# Altium schematic symbol library R 0805 1% YAGEO.SchLib: 94 symbols
Pins are listed as number, name and electrical type; pins without a type are passive.

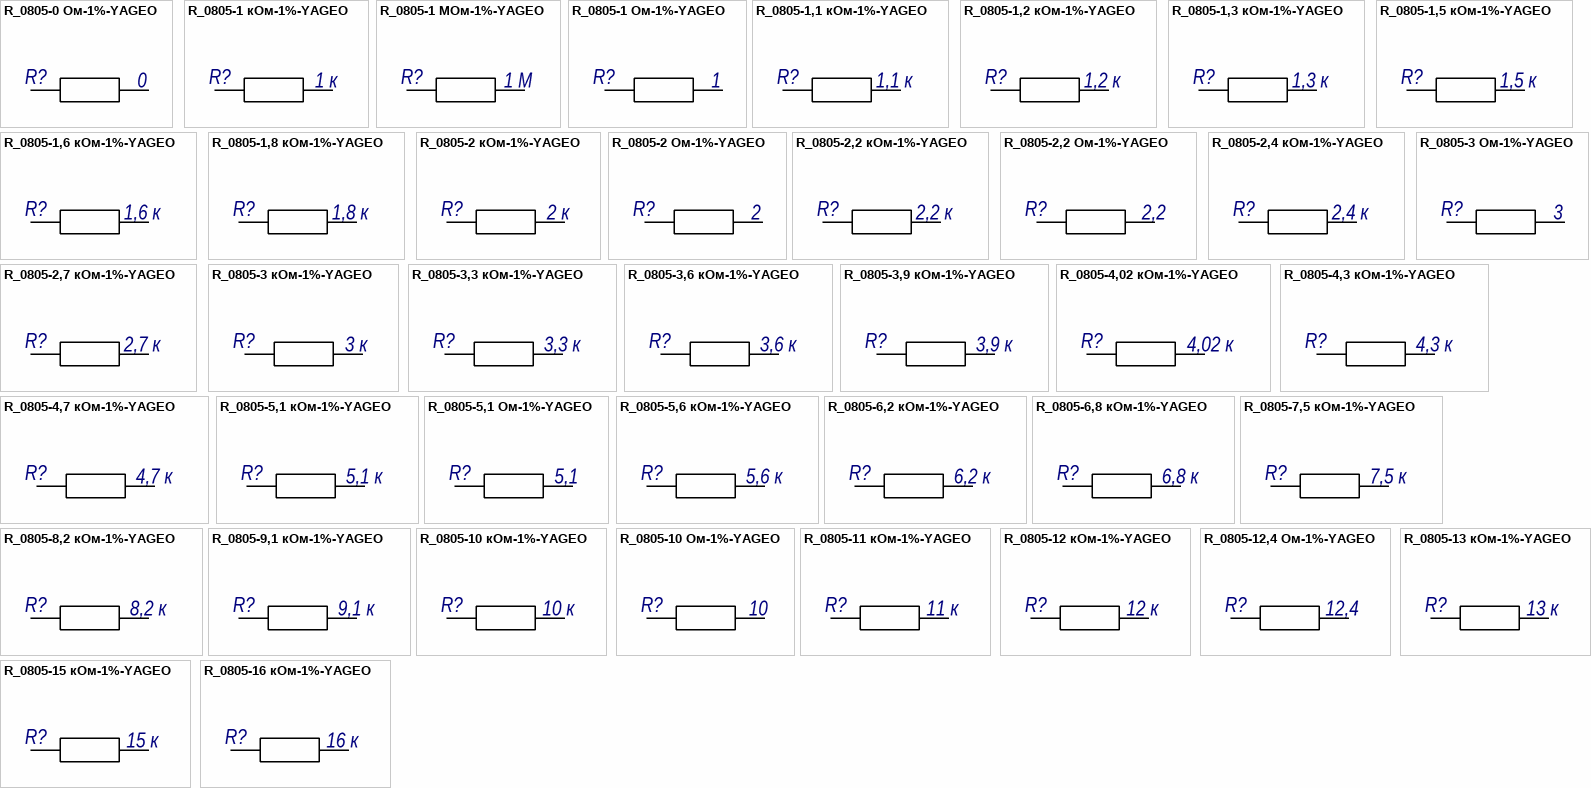
[diagram p0: symbols R_0805-0 Ом-1%-YAGEO to R_0805-16 кОм-1%-YAGEO]

## R_0805-0 Ом-1%-YAGEO
designator R?, comment value 0  (hidden comment: Резистор чип 0805-0,125 Вт-0 Ом ±1% фирма "YAGEO")
чип 0805-0,125 Вт-0 Ом ±1% фирма "YAGEO"; Tol: ± 1%; Manufacturer: фирма "YAGEO"; Power: 0,125 Вт; Name: Резистор; TYP: чип 0805; GOST: Резистор чип 0805-0,125 Вт-0 Ом ±1% фирма "YAGEO"
footprint R0805_H06M (Dim 2mm*1.25mm H=0.6mm)
pins: 1, 2
1 alternate drawing of the same symbol

## R_0805-1 кОм-1%-YAGEO
designator R?, comment value 1 к  (hidden comment: Резистор чип 0805-0,125 Вт-1 кОм ±1% фирма "YAGEO")
чип 0805-0,125 Вт-1 кОм ±1% фирма "YAGEO"; Tol: ± 1%; Manufacturer: фирма "YAGEO"; Power: 0,125 Вт; Name: Резистор; TYP: чип 0805; GOST: Резистор чип 0805-0,125 Вт-1 кОм ±1% фирма "YAGEO"
footprint R0805_H06M (Dim 2mm*1.25mm H=0.6mm)
pins: 1, 2
1 alternate drawing of the same symbol

## R_0805-1 МОм-1%-YAGEO
designator R?, comment value 1 М  (hidden comment: Резистор чип 0805-0,125 Вт-1 МОм ±1% фирма "YAGEO")
чип 0805-0,125 Вт-1 МОм ±1% фирма "YAGEO"; Tol: ± 1%; Manufacturer: фирма "YAGEO"; Power: 0,125 Вт; Name: Резистор; TYP: чип 0805; GOST: Резистор чип 0805-0,125 Вт-1 МОм ±1% фирма "YAGEO"
footprint R0805_H06M (Dim 2mm*1.25mm H=0.6mm)
pins: 1, 2
1 alternate drawing of the same symbol

## R_0805-1 Ом-1%-YAGEO
designator R?, comment value 1  (hidden comment: Резистор чип 0805-0,125 Вт-1 Ом ±1% фирма "YAGEO")
чип 0805-0,125 Вт-1 Ом ±1% фирма "YAGEO"; Tol: ± 1%; Manufacturer: фирма "YAGEO"; Power: 0,125 Вт; Name: Резистор; TYP: чип 0805; GOST: Резистор чип 0805-0,125 Вт-1 Ом ±1% фирма "YAGEO"
footprint R0805_H06M (Dim 2mm*1.25mm H=0.6mm)
pins: 1, 2
1 alternate drawing of the same symbol

## R_0805-1,1 кОм-1%-YAGEO
designator R?, comment value 1,1 к  (hidden comment: Резистор чип 0805-0,125 Вт-1,1 кОм ±1% фирма "YAGEO")
чип 0805-0,125 Вт-1,1 кОм ±1% фирма "YAGEO"; Tol: ± 1%; Manufacturer: фирма "YAGEO"; Power: 0,125 Вт; Name: Резистор; TYP: чип 0805; GOST: Резистор чип 0805-0,125 Вт-1,1 кОм ±1% фирма "YAGEO"
footprint R0805_H06M (Dim 2mm*1.25mm H=0.6mm)
pins: 1, 2
1 alternate drawing of the same symbol

## R_0805-1,2 кОм-1%-YAGEO
designator R?, comment value 1,2 к  (hidden comment: Резистор чип 0805-0,125 Вт-1,2 кОм ±1% фирма "YAGEO")
чип 0805-0,125 Вт-1,2 кОм ±1% фирма "YAGEO"; Tol: ± 1%; Manufacturer: фирма "YAGEO"; Power: 0,125 Вт; Name: Резистор; TYP: чип 0805; GOST: Резистор чип 0805-0,125 Вт-1,2 кОм ±1% фирма "YAGEO"
footprint R0805_H06M (Dim 2mm*1.25mm H=0.6mm)
pins: 1, 2
1 alternate drawing of the same symbol

## R_0805-1,3 кОм-1%-YAGEO
designator R?, comment value 1,3 к  (hidden comment: Резистор чип 0805-0,125 Вт-1,3 кОм ±1% фирма "YAGEO")
чип 0805-0,125 Вт-1,3 кОм ±1% фирма "YAGEO"; Tol: ± 1%; Manufacturer: фирма "YAGEO"; Power: 0,125 Вт; Name: Резистор; TYP: чип 0805; GOST: Резистор чип 0805-0,125 Вт-1,3 кОм ±1% фирма "YAGEO"
footprint R0805_H06M (Dim 2mm*1.25mm H=0.6mm)
pins: 1, 2
1 alternate drawing of the same symbol

## R_0805-1,5 кОм-1%-YAGEO
designator R?, comment value 1,5 к  (hidden comment: Резистор чип 0805-0,125 Вт-1,5 кОм ±1% фирма "YAGEO")
чип 0805-0,125 Вт-1,5 кОм ±1% фирма "YAGEO"; Tol: ± 1%; Manufacturer: фирма "YAGEO"; Power: 0,125 Вт; Name: Резистор; TYP: чип 0805; GOST: Резистор чип 0805-0,125 Вт-1,5 кОм ±1% фирма "YAGEO"
footprint R0805_H06M (Dim 2mm*1.25mm H=0.6mm)
pins: 1, 2
1 alternate drawing of the same symbol

## R_0805-1,6 кОм-1%-YAGEO
designator R?, comment value 1,6 к  (hidden comment: Резистор чип 0805-0,125 Вт-1,6 кОм ±1% фирма "YAGEO")
чип 0805-0,125 Вт-1,6 кОм ±1% фирма "YAGEO"; Tol: ± 1%; Manufacturer: фирма "YAGEO"; Power: 0,125 Вт; Name: Резистор; TYP: чип 0805; GOST: Резистор чип 0805-0,125 Вт-1,6 кОм ±1% фирма "YAGEO"
footprint R0805_H06M (Dim 2mm*1.25mm H=0.6mm)
pins: 1, 2
1 alternate drawing of the same symbol

## R_0805-1,8 кОм-1%-YAGEO
designator R?, comment value 1,8 к  (hidden comment: Резистор чип 0805-0,125 Вт-1,8 кОм ±1% фирма "YAGEO")
чип 0805-0,125 Вт-1,8 кОм ±1% фирма "YAGEO"; Tol: ± 1%; Manufacturer: фирма "YAGEO"; Power: 0,125 Вт; Name: Резистор; TYP: чип 0805; GOST: Резистор чип 0805-0,125 Вт-1,8 кОм ±1% фирма "YAGEO"
footprint R0805_H06M (Dim 2mm*1.25mm H=0.6mm)
pins: 1, 2
1 alternate drawing of the same symbol

## R_0805-2 кОм-1%-YAGEO
designator R?, comment value 2 к  (hidden comment: Резистор чип 0805-0,125 Вт-2 кОм ±1% фирма "YAGEO")
чип 0805-0,125 Вт-2 кОм ±1% фирма "YAGEO"; Tol: ± 1%; Manufacturer: фирма "YAGEO"; Power: 0,125 Вт; Name: Резистор; TYP: чип 0805; GOST: Резистор чип 0805-0,125 Вт-2 кОм ±1% фирма "YAGEO"
footprint R0805_H06M (Dim 2mm*1.25mm H=0.6mm)
pins: 1, 2
1 alternate drawing of the same symbol

## R_0805-2 Ом-1%-YAGEO
designator R?, comment value 2  (hidden comment: Резистор чип 0805-0,125 Вт-2 Ом ±1% фирма "YAGEO")
чип 0805-0,125 Вт-2 Ом ±1% фирма "YAGEO"; Tol: ± 1%; Manufacturer: фирма "YAGEO"; Power: 0,125 Вт; Name: Резистор; TYP: чип 0805; GOST: Резистор чип 0805-0,125 Вт-2 Ом ±1% фирма "YAGEO"
footprint R0805_H06M (Dim 2mm*1.25mm H=0.6mm)
pins: 1, 2
1 alternate drawing of the same symbol

## R_0805-2,2 кОм-1%-YAGEO
designator R?, comment value 2,2 к  (hidden comment: Резистор чип 0805-0,125 Вт-2,2 кОм ±1% фирма "YAGEO")
чип 0805-0,125 Вт-2,2 кОм ±1% фирма "YAGEO"; Tol: ± 1%; Manufacturer: фирма "YAGEO"; Power: 0,125 Вт; Name: Резистор; TYP: чип 0805; GOST: Резистор чип 0805-0,125 Вт-2,2 кОм ±1% фирма "YAGEO"
footprint R0805_H06M (Dim 2mm*1.25mm H=0.6mm)
pins: 1, 2
1 alternate drawing of the same symbol

## R_0805-2,2 Ом-1%-YAGEO
designator R?, comment value 2,2  (hidden comment: Резистор чип 0805-0,125 Вт-2,2 Ом ±1% фирма "YAGEO")
чип 0805-0,125 Вт-2,2 Ом ±1% фирма "YAGEO"; PartNumber: RC0603FR-072R2L; Tol: ± 1%; Manufacturer: фирма "YAGEO"; Power: 0,125 Вт; Name: Резистор; TYP: чип 0805; GOST: Резистор чип 0805-0,125 Вт-2,2 Ом ±1% фирма "YAGEO"
footprint R0805_H06M (Dim 2mm*1.25mm H=0.6mm)
pins: 1, 2
1 alternate drawing of the same symbol

## R_0805-2,4 кОм-1%-YAGEO
designator R?, comment value 2,4 к  (hidden comment: Резистор чип 0805-0,125 Вт-2,4 кОм ±1% фирма "YAGEO")
чип 0805-0,125 Вт-2,4 кОм ±1% фирма "YAGEO"; Tol: ± 1%; Manufacturer: фирма "YAGEO"; Power: 0,125 Вт; Name: Резистор; TYP: чип 0805; GOST: Резистор чип 0805-0,125 Вт-2,4 кОм ±1% фирма "YAGEO"
footprint R0805_H06M (Dim 2mm*1.25mm H=0.6mm)
pins: 1, 2
1 alternate drawing of the same symbol

## R_0805-2,7 кОм-1%-YAGEO
designator R?, comment value 2,7 к  (hidden comment: Резистор чип 0805-0,125 Вт-2,7 кОм ±1% фирма "YAGEO")
чип 0805-0,125 Вт-2,7 кОм ±1% фирма "YAGEO"; Tol: ± 1%; Manufacturer: фирма "YAGEO"; Power: 0,125 Вт; Name: Резистор; TYP: чип 0805; GOST: Резистор чип 0805-0,125 Вт-2,7 кОм ±1% фирма "YAGEO"
footprint R0805_H06M (Dim 2mm*1.25mm H=0.6mm)
pins: 1, 2
1 alternate drawing of the same symbol

## R_0805-3 кОм-1%-YAGEO
designator R?, comment value 3 к  (hidden comment: Резистор чип 0805-0,125 Вт-3 кОм ±1% фирма "YAGEO")
чип 0805-0,125 Вт-3 кОм ±1% фирма "YAGEO"; Tol: ± 1%; Manufacturer: фирма "YAGEO"; Power: 0,125 Вт; Name: Резистор; TYP: чип 0805; GOST: Резистор чип 0805-0,125 Вт-3 кОм ±1% фирма "YAGEO"
footprint R0805_H06M (Dim 2mm*1.25mm H=0.6mm)
pins: 1, 2
1 alternate drawing of the same symbol

## R_0805-3 Ом-1%-YAGEO
designator R?, comment value 3  (hidden comment: Резистор чип 0805-0,125 Вт-3 Ом ±1% фирма "YAGEO")
чип 0805-0,125 Вт-3 Ом ±1% фирма "YAGEO"; Tol: ± 1%; Manufacturer: фирма "YAGEO"; Power: 0,125 Вт; Name: Резистор; TYP: чип 0805; GOST: Резистор чип 0805-0,125 Вт-3 Ом ±1% фирма "YAGEO"
footprint R0805_H06M (Dim 2mm*1.25mm H=0.6mm)
pins: 1, 2
1 alternate drawing of the same symbol

## R_0805-3,3 кОм-1%-YAGEO
designator R?, comment value 3,3 к  (hidden comment: Резистор чип 0805-0,125 Вт-3,3 кОм ±1% фирма "YAGEO")
чип 0805-0,125 Вт-3,3 кОм ±1% фирма "YAGEO"; Tol: ± 1%; Manufacturer: фирма "YAGEO"; Power: 0,125 Вт; Name: Резистор; TYP: чип 0805; GOST: Резистор чип 0805-0,125 Вт-3,3 кОм ±1% фирма "YAGEO"
footprint R0805_H06M (Dim 2mm*1.25mm H=0.6mm)
pins: 1, 2
1 alternate drawing of the same symbol

## R_0805-3,6 кОм-1%-YAGEO
designator R?, comment value 3,6 к  (hidden comment: Резистор чип 0805-0,125 Вт-3,6 кОм ±1% фирма "YAGEO")
чип 0805-0,125 Вт-3,6 кОм ±1% фирма "YAGEO"; Tol: ± 1%; Manufacturer: фирма "YAGEO"; Power: 0,125 Вт; Name: Резистор; TYP: чип 0805; GOST: Резистор чип 0805-0,125 Вт-3,6 кОм ±1% фирма "YAGEO"
footprint R0805_H06M (Dim 2mm*1.25mm H=0.6mm)
pins: 1, 2
1 alternate drawing of the same symbol

## R_0805-3,9 кОм-1%-YAGEO
designator R?, comment value 3,9 к  (hidden comment: Резистор чип 0805-0,125 Вт-3,9 кОм ±1% фирма "YAGEO")
чип 0805-0,125 Вт-3,9 кОм ±1% фирма "YAGEO"; Tol: ± 1%; Manufacturer: фирма "YAGEO"; Power: 0,125 Вт; Name: Резистор; TYP: чип 0805; GOST: Резистор чип 0805-0,125 Вт-3,9 кОм ±1% фирма "YAGEO"
footprint R0805_H06M (Dim 2mm*1.25mm H=0.6mm)
pins: 1, 2
1 alternate drawing of the same symbol

## R_0805-4,02 кОм-1%-YAGEO
designator R?, comment value 4,02 к  (hidden comment: Резистор чип 0805-0,125 Вт-4,02 кОм ±1% фирма "YAGEO")
чип 0805-0,125 Вт-4,02 кОм ±1% фирма "YAGEO"; Tol: ± 1%; Manufacturer: фирма "YAGEO"; Power: 0,125 Вт; Name: Резистор; TYP: чип 0805; GOST: Резистор чип 0805-0,125 Вт-4,02 кОм ±1% фирма "YAGEO"
footprint R0805_H06M (Dim 2mm*1.25mm H=0.6mm)
pins: 1, 2
1 alternate drawing of the same symbol

## R_0805-4,3 кОм-1%-YAGEO
designator R?, comment value 4,3 к  (hidden comment: Резистор чип 0805-0,125 Вт-4,3 кОм ±1% фирма "YAGEO")
чип 0805-0,125 Вт-4,3 кОм ±1% фирма "YAGEO"; Tol: ± 1%; Manufacturer: фирма "YAGEO"; Power: 0,125 Вт; Name: Резистор; TYP: чип 0805; GOST: Резистор чип 0805-0,125 Вт-4,3 кОм ±1% фирма "YAGEO"
footprint R0805_H06M (Dim 2mm*1.25mm H=0.6mm)
pins: 1, 2
1 alternate drawing of the same symbol

## R_0805-4,7 кОм-1%-YAGEO
designator R?, comment value 4,7 к  (hidden comment: Резистор чип 0805-0,125 Вт-4,7 кОм ±1% фирма "YAGEO")
чип 0805-0,125 Вт-4,7 кОм ±1% фирма "YAGEO"; Tol: ± 1%; Manufacturer: фирма "YAGEO"; Power: 0,125 Вт; Name: Резистор; TYP: чип 0805; GOST: Резистор чип 0805-0,125 Вт-4,7 кОм ±1% фирма "YAGEO"
footprint R0805_H06M (Dim 2mm*1.25mm H=0.6mm)
pins: 1, 2
1 alternate drawing of the same symbol

## R_0805-5,1 кОм-1%-YAGEO
designator R?, comment value 5,1 к  (hidden comment: Резистор чип 0805-0,125 Вт-5,1 кОм ±1% фирма "YAGEO")
чип 0805-0,125 Вт-5,1 кОм ±1% фирма "YAGEO"; Tol: ± 1%; Manufacturer: фирма "YAGEO"; Power: 0,125 Вт; Name: Резистор; TYP: чип 0805; GOST: Резистор чип 0805-0,125 Вт-5,1 кОм ±1% фирма "YAGEO"
footprint R0805_H06M (Dim 2mm*1.25mm H=0.6mm)
pins: 1, 2
1 alternate drawing of the same symbol

## R_0805-5,1 Ом-1%-YAGEO
designator R?, comment value 5,1  (hidden comment: Резистор чип 0805-0,125 Вт-5,1 Ом ±1% фирма "YAGEO")
чип 0805-0,125 Вт-5,1 Ом ±1% фирма "YAGEO"; Tol: ± 1%; Manufacturer: фирма "YAGEO"; Power: 0,125 Вт; Name: Резистор; TYP: чип 0805; GOST: Резистор чип 0805-0,125 Вт-5,1 Ом ±1% фирма "YAGEO"
footprint R0805_H06M (Dim 2mm*1.25mm H=0.6mm)
pins: 1, 2
1 alternate drawing of the same symbol

## R_0805-5,6 кОм-1%-YAGEO
designator R?, comment value 5,6 к  (hidden comment: Резистор чип 0805-0,125 Вт-5,6 кОм ±1% фирма "YAGEO")
чип 0805-0,125 Вт-5,6 кОм ±1% фирма "YAGEO"; Tol: ± 1%; Manufacturer: фирма "YAGEO"; Power: 0,125 Вт; Name: Резистор; TYP: чип 0805; GOST: Резистор чип 0805-0,125 Вт-5,6 кОм ±1% фирма "YAGEO"
footprint R0805_H06M (Dim 2mm*1.25mm H=0.6mm)
pins: 1, 2
1 alternate drawing of the same symbol

## R_0805-6,2 кОм-1%-YAGEO
designator R?, comment value 6,2 к  (hidden comment: Резистор чип 0805-0,125 Вт-6,2 кОм ±1% фирма "YAGEO")
чип 0805-0,125 Вт-6,2 кОм ±1% фирма "YAGEO"; Tol: ± 1%; Manufacturer: фирма "YAGEO"; Power: 0,125 Вт; Name: Резистор; TYP: чип 0805; GOST: Резистор чип 0805-0,125 Вт-6,2 кОм ±1% фирма "YAGEO"
footprint R0805_H06M (Dim 2mm*1.25mm H=0.6mm)
pins: 1, 2
1 alternate drawing of the same symbol

## R_0805-6,8 кОм-1%-YAGEO
designator R?, comment value 6,8 к  (hidden comment: Резистор чип 0805-0,125 Вт-6,8 кОм ±1% фирма "YAGEO")
чип 0805-0,125 Вт-6,8 кОм ±1% фирма "YAGEO"; Tol: ± 1%; Manufacturer: фирма "YAGEO"; Power: 0,125 Вт; Name: Резистор; TYP: чип 0805; GOST: Резистор чип 0805-0,125 Вт-6,8 кОм ±1% фирма "YAGEO"
footprint R0805_H06M (Dim 2mm*1.25mm H=0.6mm)
pins: 1, 2
1 alternate drawing of the same symbol

## R_0805-7,5 кОм-1%-YAGEO
designator R?, comment value 7,5 к  (hidden comment: Резистор чип 0805-0,125 Вт-7,5 кОм ±1% фирма "YAGEO")
чип 0805-0,125 Вт-7,5 кОм ±1% фирма "YAGEO"; Tol: ± 1%; Manufacturer: фирма "YAGEO"; Power: 0,125 Вт; Name: Резистор; TYP: чип 0805; GOST: Резистор чип 0805-0,125 Вт-7,5 кОм ±1% фирма "YAGEO"
footprint R0805_H06M (Dim 2mm*1.25mm H=0.6mm)
pins: 1, 2
1 alternate drawing of the same symbol

## R_0805-8,2 кОм-1%-YAGEO
designator R?, comment value 8,2 к  (hidden comment: Резистор чип 0805-0,125 Вт-8,2 кОм ±1% фирма "YAGEO")
чип 0805-0,125 Вт-8,2 кОм ±1% фирма "YAGEO"; Tol: ± 1%; Manufacturer: фирма "YAGEO"; Power: 0,125 Вт; Name: Резистор; TYP: чип 0805; GOST: Резистор чип 0805-0,125 Вт-8,2 кОм ±1% фирма "YAGEO"
footprint R0805_H06M (Dim 2mm*1.25mm H=0.6mm)
pins: 1, 2
1 alternate drawing of the same symbol

## R_0805-9,1 кОм-1%-YAGEO
designator R?, comment value 9,1 к  (hidden comment: Резистор чип 0805-0,125 Вт-9,1 кОм ±1% фирма "YAGEO")
чип 0805-0,125 Вт-9,1 кОм ±1% фирма "YAGEO"; Tol: ± 1%; Manufacturer: фирма "YAGEO"; Power: 0,125 Вт; Name: Резистор; TYP: чип 0805; GOST: Резистор чип 0805-0,125 Вт-9,1 кОм ±1% фирма "YAGEO"
footprint R0805_H06M (Dim 2mm*1.25mm H=0.6mm)
pins: 1, 2
1 alternate drawing of the same symbol

## R_0805-10 кОм-1%-YAGEO
designator R?, comment value 10 к  (hidden comment: Резистор чип 0805-0,125 Вт-10 кОм ±1% фирма "YAGEO")
чип 0805-0,125 Вт-10 кОм ±1% фирма "YAGEO"; Tol: ± 1%; Manufacturer: фирма "YAGEO"; Power: 0,125 Вт; Name: Резистор; TYP: чип 0805; GOST: Резистор чип 0805-0,125 Вт-10 кОм ±1% фирма "YAGEO"
footprint R0805_H06M (Dim 2mm*1.25mm H=0.6mm)
pins: 1, 2
1 alternate drawing of the same symbol

## R_0805-10 Ом-1%-YAGEO
designator R?, comment value 10  (hidden comment: Резистор чип 0805-0,125 Вт-10 Ом ±1% фирма "YAGEO")
чип 0805-0,125 Вт-10 Ом ±1% фирма "YAGEO"; Tol: ± 1%; Manufacturer: фирма "YAGEO"; Power: 0,125 Вт; Name: Резистор; TYP: чип 0805; GOST: Резистор чип 0805-0,125 Вт-10 Ом ±1% фирма "YAGEO"
footprint R0805_H06M (Dim 2mm*1.25mm H=0.6mm)
pins: 1, 2
1 alternate drawing of the same symbol

## R_0805-11 кОм-1%-YAGEO
designator R?, comment value 11 к  (hidden comment: Резистор чип 0805-0,125 Вт-11 кОм ±1% фирма "YAGEO")
чип 0805-0,125 Вт-11 кОм ±1% фирма "YAGEO"; Tol: ± 1%; Manufacturer: фирма "YAGEO"; Power: 0,125 Вт; Name: Резистор; TYP: чип 0805; GOST: Резистор чип 0805-0,125 Вт-11 кОм ±1% фирма "YAGEO"
footprint R0805_H06M (Dim 2mm*1.25mm H=0.6mm)
pins: 1, 2
1 alternate drawing of the same symbol

## R_0805-12 кОм-1%-YAGEO
designator R?, comment value 12 к  (hidden comment: Резистор чип 0805-0,125 Вт-12 кОм ±1% фирма "YAGEO")
чип 0805-0,125 Вт-12 кОм ±1% фирма "YAGEO"; Tol: ± 1%; Manufacturer: фирма "YAGEO"; Power: 0,125 Вт; Name: Резистор; TYP: чип 0805; GOST: Резистор чип 0805-0,125 Вт-12 кОм ±1% фирма "YAGEO"
footprint R0805_H06M (Dim 2mm*1.25mm H=0.6mm)
pins: 1, 2
1 alternate drawing of the same symbol

## R_0805-12,4 Ом-1%-YAGEO
designator R?, comment value 12,4  (hidden comment: Резистор чип 0805-0,125 Вт-12,4 Ом ±1% фирма "YAGEO")
чип 0805-0,125 Вт-12,4 Ом ±1% фирма "YAGEO"; Tol: ± 1%; Manufacturer: фирма "YAGEO"; Power: 0,125 Вт; Name: Резистор; TYP: чип 0805; GOST: Резистор чип 0805-0,125 Вт-12,4 Ом ±1% фирма "YAGEO"
footprint R0805_H06M (Dim 2mm*1.25mm H=0.6mm)
pins: 1, 2
1 alternate drawing of the same symbol

## R_0805-13 кОм-1%-YAGEO
designator R?, comment value 13 к  (hidden comment: Резистор чип 0805-0,125 Вт-13 кОм ±1% фирма "YAGEO")
чип 0805-0,125 Вт-13 кОм ±1% фирма "YAGEO"; Tol: ± 1%; Manufacturer: фирма "YAGEO"; Power: 0,125 Вт; Name: Резистор; TYP: чип 0805; GOST: Резистор чип 0805-0,125 Вт-13 кОм ±1% фирма "YAGEO"
footprint R0805_H06M (Dim 2mm*1.25mm H=0.6mm)
pins: 1, 2
1 alternate drawing of the same symbol

## R_0805-15 кОм-1%-YAGEO
designator R?, comment value 15 к  (hidden comment: Резистор чип 0805-0,125 Вт-15 кОм ±1% фирма "YAGEO")
чип 0805-0,125 Вт-15 кОм ±1% фирма "YAGEO"; Tol: ± 1%; Manufacturer: фирма "YAGEO"; Power: 0,125 Вт; Name: Резистор; TYP: чип 0805; GOST: Резистор чип 0805-0,125 Вт-15 кОм ±1% фирма "YAGEO"
footprint R0805_H06M (Dim 2mm*1.25mm H=0.6mm)
pins: 1, 2
1 alternate drawing of the same symbol

## R_0805-16 кОм-1%-YAGEO
designator R?, comment value 16 к  (hidden comment: Резистор чип 0805-0,125 Вт-16 кОм ±1% фирма "YAGEO")
чип 0805-0,125 Вт-16 кОм ±1% фирма "YAGEO"; Tol: ± 1%; Manufacturer: фирма "YAGEO"; Power: 0,125 Вт; Name: Резистор; TYP: чип 0805; GOST: Резистор чип 0805-0,125 Вт-16 кОм ±1% фирма "YAGEO"
footprint R0805_H06M (Dim 2mm*1.25mm H=0.6mm)
pins: 1, 2
1 alternate drawing of the same symbol

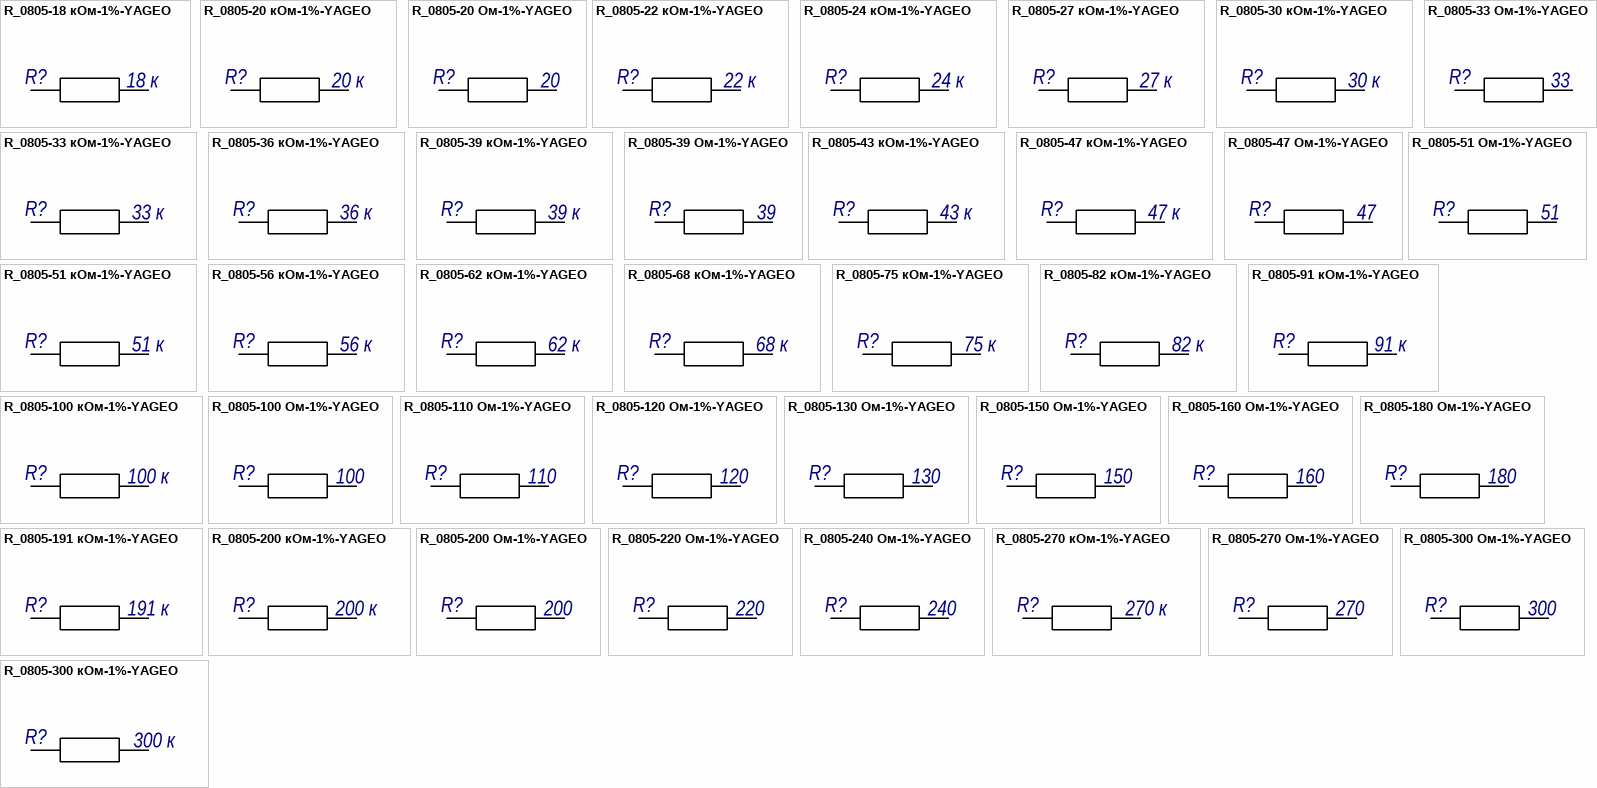
[diagram p1: symbols R_0805-18 кОм-1%-YAGEO to R_0805-300 Ом-1%-YAGEO]

## R_0805-18 кОм-1%-YAGEO
designator R?, comment value 18 к  (hidden comment: Резистор чип 0805-0,125 Вт-18 кОм ±1% фирма "YAGEO")
чип 0805-0,125 Вт-18 кОм ±1% фирма "YAGEO"; Tol: ± 1%; Manufacturer: фирма "YAGEO"; Power: 0,125 Вт; Name: Резистор; TYP: чип 0805; GOST: Резистор чип 0805-0,125 Вт-18 кОм ±1% фирма "YAGEO"
footprint R0805_H06M (Dim 2mm*1.25mm H=0.6mm)
pins: 1, 2
1 alternate drawing of the same symbol

## R_0805-20 кОм-1%-YAGEO
designator R?, comment value 20 к  (hidden comment: Резистор чип 0805-0,125 Вт-20 кОм ±1% фирма "YAGEO")
чип 0805-0,125 Вт-20 кОм ±1% фирма "YAGEO"; Tol: ± 1%; Manufacturer: фирма "YAGEO"; Power: 0,125 Вт; Name: Резистор; TYP: чип 0805; GOST: Резистор чип 0805-0,125 Вт-20 кОм ±1% фирма "YAGEO"
footprint R0805_H06M (Dim 2mm*1.25mm H=0.6mm)
pins: 1, 2
1 alternate drawing of the same symbol

## R_0805-20 Ом-1%-YAGEO
designator R?, comment value 20  (hidden comment: Резистор чип 0805-0,125 Вт-20 Ом ±1% фирма "YAGEO")
чип 0805-0,125 Вт-20 Ом ±1% фирма "YAGEO"; Tol: ± 1%; Manufacturer: фирма "YAGEO"; Power: 0,125 Вт; Name: Резистор; TYP: чип 0805; GOST: Резистор чип 0805-0,125 Вт-20 Ом ±1% фирма "YAGEO"
footprint R0805_H06M (Dim 2mm*1.25mm H=0.6mm)
pins: 1, 2
1 alternate drawing of the same symbol

## R_0805-22 кОм-1%-YAGEO
designator R?, comment value 22 к  (hidden comment: Резистор чип 0805-0,125 Вт-22 кОм ±1% фирма "YAGEO")
чип 0805-0,125 Вт-22 кОм ±1% фирма "YAGEO"; Tol: ± 1%; Manufacturer: фирма "YAGEO"; Power: 0,125 Вт; Name: Резистор; TYP: чип 0805; GOST: Резистор чип 0805-0,125 Вт-22 кОм ±1% фирма "YAGEO"
footprint R0805_H06M (Dim 2mm*1.25mm H=0.6mm)
pins: 1, 2
1 alternate drawing of the same symbol

## R_0805-24 кОм-1%-YAGEO
designator R?, comment value 24 к  (hidden comment: Резистор чип 0805-0,125 Вт-24 кОм ±1% фирма "YAGEO")
чип 0805-0,125 Вт-24 кОм ±1% фирма "YAGEO"; Tol: ± 1%; Manufacturer: фирма "YAGEO"; Power: 0,125 Вт; Name: Резистор; TYP: чип 0805; GOST: Резистор чип 0805-0,125 Вт-24 кОм ±1% фирма "YAGEO"
footprint R0805_H06M (Dim 2mm*1.25mm H=0.6mm)
pins: 1, 2
1 alternate drawing of the same symbol

## R_0805-27 кОм-1%-YAGEO
designator R?, comment value 27 к  (hidden comment: Резистор чип 0805-0,125 Вт-27 кОм ±1% фирма "YAGEO")
чип 0805-0,125 Вт-27 кОм ±1% фирма "YAGEO"; Tol: ± 1%; Manufacturer: фирма "YAGEO"; Power: 0,125 Вт; Name: Резистор; TYP: чип 0805; GOST: Резистор чип 0805-0,125 Вт-27 кОм ±1% фирма "YAGEO"
footprint R0805_H06M (Dim 2mm*1.25mm H=0.6mm)
pins: 1, 2
1 alternate drawing of the same symbol

## R_0805-30 кОм-1%-YAGEO
designator R?, comment value 30 к  (hidden comment: Резистор чип 0805-0,125 Вт-30 кОм ±1% фирма "YAGEO")
чип 0805-0,125 Вт-30 кОм ±1% фирма "YAGEO"; Tol: ± 1%; Manufacturer: фирма "YAGEO"; Power: 0,125 Вт; Name: Резистор; TYP: чип 0805; GOST: Резистор чип 0805-0,125 Вт-30 кОм ±1% фирма "YAGEO"
footprint R0805_H06M (Dim 2mm*1.25mm H=0.6mm)
pins: 1, 2
1 alternate drawing of the same symbol

## R_0805-33 кОм-1%-YAGEO
designator R?, comment value 33 к  (hidden comment: Резистор чип 0805-0,125 Вт-33 кОм ±1% фирма "YAGEO")
чип 0805-0,125 Вт-33 кОм ±1% фирма "YAGEO"; Tol: ± 1%; Manufacturer: фирма "YAGEO"; Power: 0,125 Вт; Name: Резистор; TYP: чип 0805; GOST: Резистор чип 0805-0,125 Вт-33 кОм ±1% фирма "YAGEO"
footprint R0805_H06M (Dim 2mm*1.25mm H=0.6mm)
pins: 1, 2
1 alternate drawing of the same symbol

## R_0805-33 Ом-1%-YAGEO
designator R?, comment value 33  (hidden comment: Резистор чип 0805-0,125 Вт-33 Ом ±1% фирма "YAGEO")
чип 0805-0,125 Вт-33 Ом ±1% фирма "YAGEO"; Tol: ± 1%; Manufacturer: фирма "YAGEO"; Power: 0,125 Вт; Name: Резистор; TYP: чип 0805; GOST: Резистор чип 0805-0,125 Вт-33 Ом ±1% фирма "YAGEO"
footprint R0805_H06M (Dim 2mm*1.25mm H=0.6mm)
pins: 1, 2
1 alternate drawing of the same symbol

## R_0805-36 кОм-1%-YAGEO
designator R?, comment value 36 к  (hidden comment: Резистор чип 0805-0,125 Вт-36 кОм ±1% фирма "YAGEO")
чип 0805-0,125 Вт-36 кОм ±1% фирма "YAGEO"; Tol: ± 1%; Manufacturer: фирма "YAGEO"; Power: 0,125 Вт; Name: Резистор; TYP: чип 0805; GOST: Резистор чип 0805-0,125 Вт-36 кОм ±1% фирма "YAGEO"
footprint R0805_H06M (Dim 2mm*1.25mm H=0.6mm)
pins: 1, 2
1 alternate drawing of the same symbol

## R_0805-39 кОм-1%-YAGEO
designator R?, comment value 39 к  (hidden comment: Резистор чип 0805-0,125 Вт-39 кОм ±1% фирма "YAGEO")
чип 0805-0,125 Вт-39 кОм ±1% фирма "YAGEO"; Tol: ± 1%; Manufacturer: фирма "YAGEO"; Power: 0,125 Вт; Name: Резистор; TYP: чип 0805; GOST: Резистор чип 0805-0,125 Вт-39 кОм ±1% фирма "YAGEO"
footprint R0805_H06M (Dim 2mm*1.25mm H=0.6mm)
pins: 1, 2
1 alternate drawing of the same symbol

## R_0805-39 Ом-1%-YAGEO
designator R?, comment value 39  (hidden comment: Резистор чип 0805-0,125 Вт-39 Ом ±1% фирма "YAGEO")
чип 0805-0,125 Вт-39 Ом ±1% фирма "YAGEO"; Tol: ± 1%; Manufacturer: фирма "YAGEO"; Power: 0,125 Вт; Name: Резистор; TYP: чип 0805; GOST: Резистор чип 0805-0,125 Вт-39 Ом ±1% фирма "YAGEO"
footprint R0805_H06M (Dim 2mm*1.25mm H=0.6mm)
pins: 1, 2
1 alternate drawing of the same symbol

## R_0805-43 кОм-1%-YAGEO
designator R?, comment value 43 к  (hidden comment: Резистор чип 0805-0,125 Вт-43 кОм ±1% фирма "YAGEO")
чип 0805-0,125 Вт-43 кОм ±1% фирма "YAGEO"; Tol: ± 1%; Manufacturer: фирма "YAGEO"; Power: 0,125 Вт; Name: Резистор; TYP: чип 0805; GOST: Резистор чип 0805-0,125 Вт-43 кОм ±1% фирма "YAGEO"
footprint R0805_H06M (Dim 2mm*1.25mm H=0.6mm)
pins: 1, 2
1 alternate drawing of the same symbol

## R_0805-47 кОм-1%-YAGEO
designator R?, comment value 47 к  (hidden comment: Резистор чип 0805-0,125 Вт-47 кОм ±1% фирма "YAGEO")
чип 0805-0,125 Вт-47 кОм ±1% фирма "YAGEO"; Tol: ± 1%; Manufacturer: фирма "YAGEO"; Power: 0,125 Вт; Name: Резистор; TYP: чип 0805; GOST: Резистор чип 0805-0,125 Вт-47 кОм ±1% фирма "YAGEO"
footprint R0805_H06M (Dim 2mm*1.25mm H=0.6mm)
pins: 1, 2
1 alternate drawing of the same symbol

## R_0805-47 Ом-1%-YAGEO
designator R?, comment value 47  (hidden comment: Резистор чип 0805-0,125 Вт-47 Ом ±1% фирма "YAGEO")
чип 0805-0,125 Вт-47 Ом ±1% фирма "YAGEO"; Tol: ± 1%; Manufacturer: фирма "YAGEO"; Power: 0,125 Вт; Name: Резистор; TYP: чип 0805; GOST: Резистор чип 0805-0,125 Вт-47 Ом ±1% фирма "YAGEO"
footprint R0805_H06M (Dim 2mm*1.25mm H=0.6mm)
pins: 1, 2
1 alternate drawing of the same symbol

## R_0805-51 кОм-1%-YAGEO
designator R?, comment value 51 к  (hidden comment: Резистор чип 0805-0,125 Вт-51 кОм ±1% фирма "YAGEO")
чип 0805-0,125 Вт-51 кОм ±1% фирма "YAGEO"; Tol: ± 1%; Manufacturer: фирма "YAGEO"; Power: 0,125 Вт; Name: Резистор; TYP: чип 0805; GOST: Резистор чип 0805-0,125 Вт-51 кОм ±1% фирма "YAGEO"
footprint R0805_H06M (Dim 2mm*1.25mm H=0.6mm)
pins: 1, 2
1 alternate drawing of the same symbol

## R_0805-51 Ом-1%-YAGEO
designator R?, comment value 51  (hidden comment: Резистор чип 0805-0,125 Вт-51 Ом ±1% фирма "YAGEO")
чип 0805-0,125 Вт-51 Ом ±1% фирма "YAGEO"; Tol: ± 1%; Manufacturer: фирма "YAGEO"; Power: 0,125 Вт; Name: Резистор; TYP: чип 0805; GOST: Резистор чип 0805-0,125 Вт-51 Ом ±1% фирма "YAGEO"
footprint R0805_H06M (Dim 2mm*1.25mm H=0.6mm)
pins: 1, 2
1 alternate drawing of the same symbol

## R_0805-56 кОм-1%-YAGEO
designator R?, comment value 56 к  (hidden comment: Резистор чип 0805-0,125 Вт-56 кОм ±1% фирма "YAGEO")
чип 0805-0,125 Вт-56 кОм ±1% фирма "YAGEO"; Tol: ± 1%; Manufacturer: фирма "YAGEO"; Power: 0,125 Вт; Name: Резистор; TYP: чип 0805; GOST: Резистор чип 0805-0,125 Вт-56 кОм ±1% фирма "YAGEO"
footprint R0805_H06M (Dim 2mm*1.25mm H=0.6mm)
pins: 1, 2
1 alternate drawing of the same symbol

## R_0805-62 кОм-1%-YAGEO
designator R?, comment value 62 к  (hidden comment: Резистор чип 0805-0,125 Вт-62 кОм ±1% фирма "YAGEO")
чип 0805-0,125 Вт-62 кОм ±1% фирма "YAGEO"; Tol: ± 1%; Manufacturer: фирма "YAGEO"; Power: 0,125 Вт; Name: Резистор; TYP: чип 0805; GOST: Резистор чип 0805-0,125 Вт-62 кОм ±1% фирма "YAGEO"
footprint R0805_H06M (Dim 2mm*1.25mm H=0.6mm)
pins: 1, 2
1 alternate drawing of the same symbol

## R_0805-68 кОм-1%-YAGEO
designator R?, comment value 68 к  (hidden comment: Резистор чип 0805-0,125 Вт-68 кОм ±1% фирма "YAGEO")
чип 0805-0,125 Вт-68 кОм ±1% фирма "YAGEO"; Tol: ± 1%; Manufacturer: фирма "YAGEO"; Power: 0,125 Вт; Name: Резистор; TYP: чип 0805; GOST: Резистор чип 0805-0,125 Вт-68 кОм ±1% фирма "YAGEO"
footprint R0805_H06M (Dim 2mm*1.25mm H=0.6mm)
pins: 1, 2
1 alternate drawing of the same symbol

## R_0805-75 кОм-1%-YAGEO
designator R?, comment value 75 к  (hidden comment: Резистор чип 0805-0,125 Вт-75 кОм ±1% фирма "YAGEO")
чип 0805-0,125 Вт-75 кОм ±1% фирма "YAGEO"; Tol: ± 1%; Manufacturer: фирма "YAGEO"; Power: 0,125 Вт; Name: Резистор; TYP: чип 0805; GOST: Резистор чип 0805-0,125 Вт-75 кОм ±1% фирма "YAGEO"
footprint R0805_H06M (Dim 2mm*1.25mm H=0.6mm)
pins: 1, 2
1 alternate drawing of the same symbol

## R_0805-82 кОм-1%-YAGEO
designator R?, comment value 82 к  (hidden comment: Резистор чип 0805-0,125 Вт-82 кОм ±1% фирма "YAGEO")
чип 0805-0,125 Вт-82 кОм ±1% фирма "YAGEO"; Tol: ± 1%; Manufacturer: фирма "YAGEO"; Power: 0,125 Вт; Name: Резистор; TYP: чип 0805; GOST: Резистор чип 0805-0,125 Вт-82 кОм ±1% фирма "YAGEO"
footprint R0805_H06M (Dim 2mm*1.25mm H=0.6mm)
pins: 1, 2
1 alternate drawing of the same symbol

## R_0805-91 кОм-1%-YAGEO
designator R?, comment value 91 к  (hidden comment: Резистор чип 0805-0,125 Вт-91 кОм ±1% фирма "YAGEO")
чип 0805-0,125 Вт-91 кОм ±1% фирма "YAGEO"; Tol: ± 1%; Manufacturer: фирма "YAGEO"; Power: 0,125 Вт; Name: Резистор; TYP: чип 0805; GOST: Резистор чип 0805-0,125 Вт-91 кОм ±1% фирма "YAGEO"
footprint R0805_H06M (Dim 2mm*1.25mm H=0.6mm)
pins: 1, 2
1 alternate drawing of the same symbol

## R_0805-100 кОм-1%-YAGEO
designator R?, comment value 100 к  (hidden comment: Резистор чип 0805-0,125 Вт-100 кОм ±1% фирма "YAGEO")
чип 0805-0,125 Вт-100 кОм ±1% фирма "YAGEO"; Tol: ± 1%; Manufacturer: фирма "YAGEO"; Power: 0,125 Вт; Name: Резистор; TYP: чип 0805; GOST: Резистор чип 0805-0,125 Вт-100 кОм ±1% фирма "YAGEO"
footprint R0805_H06M (Dim 2mm*1.25mm H=0.6mm)
pins: 1, 2
1 alternate drawing of the same symbol

## R_0805-100 Ом-1%-YAGEO
designator R?, comment value 100  (hidden comment: Резистор чип 0805-0,125 Вт-100 Ом ±1% фирма "YAGEO")
чип 0805-0,125 Вт-100 Ом ±1% фирма "YAGEO"; Tol: ± 1%; Manufacturer: фирма "YAGEO"; Power: 0,125 Вт; Name: Резистор; TYP: чип 0805; GOST: Резистор чип 0805-0,125 Вт-100 Ом ±1% фирма "YAGEO"
footprint R0805_H06M (Dim 2mm*1.25mm H=0.6mm)
pins: 1, 2
1 alternate drawing of the same symbol

## R_0805-110 Ом-1%-YAGEO
designator R?, comment value 110  (hidden comment: Резистор чип 0805-0,125 Вт-110 Ом ±1% фирма "YAGEO")
чип 0805-0,125 Вт-110 Ом ±1% фирма "YAGEO"; Tol: ± 1%; Manufacturer: фирма "YAGEO"; Power: 0,125 Вт; Name: Резистор; TYP: чип 0805; GOST: Резистор чип 0805-0,125 Вт-110 Ом ±1% фирма "YAGEO"
footprint R0805_H06M (Dim 2mm*1.25mm H=0.6mm)
pins: 1, 2
1 alternate drawing of the same symbol

## R_0805-120 Ом-1%-YAGEO
designator R?, comment value 120  (hidden comment: Резистор чип 0805-0,125 Вт-120 Ом ±1% фирма "YAGEO")
чип 0805-0,125 Вт-120 Ом ±1% фирма "YAGEO"; Tol: ± 1%; Manufacturer: фирма "YAGEO"; Power: 0,125 Вт; Name: Резистор; TYP: чип 0805; GOST: Резистор чип 0805-0,125 Вт-120 Ом ±1% фирма "YAGEO"
footprint R0805_H06M (Dim 2mm*1.25mm H=0.6mm)
pins: 1, 2
1 alternate drawing of the same symbol

## R_0805-130 Ом-1%-YAGEO
designator R?, comment value 130  (hidden comment: Резистор чип 0805-0,125 Вт-130 Ом ±1% фирма "YAGEO")
чип 0805-0,125 Вт-130 Ом ±1% фирма "YAGEO"; Tol: ± 1%; Manufacturer: фирма "YAGEO"; Power: 0,125 Вт; Name: Резистор; TYP: чип 0805; GOST: Резистор чип 0805-0,125 Вт-130 Ом ±1% фирма "YAGEO"
footprint R0805_H06M (Dim 2mm*1.25mm H=0.6mm)
pins: 1, 2
1 alternate drawing of the same symbol

## R_0805-150 Ом-1%-YAGEO
designator R?, comment value 150  (hidden comment: Резистор чип 0805-0,125 Вт-150 Ом ±1% фирма "YAGEO")
чип 0805-0,125 Вт-150 Ом ±1% фирма "YAGEO"; Tol: ± 1%; Manufacturer: фирма "YAGEO"; Power: 0,125 Вт; Name: Резистор; TYP: чип 0805; GOST: Резистор чип 0805-0,125 Вт-150 Ом ±1% фирма "YAGEO"
footprint R0805_H06M (Dim 2mm*1.25mm H=0.6mm)
pins: 1, 2
1 alternate drawing of the same symbol

## R_0805-160 Ом-1%-YAGEO
designator R?, comment value 160  (hidden comment: Резистор чип 0805-0,125 Вт-160 Ом ±1% фирма "YAGEO")
чип 0805-0,125 Вт-160 Ом ±1% фирма "YAGEO"; Tol: ± 1%; Manufacturer: фирма "YAGEO"; Power: 0,125 Вт; Name: Резистор; TYP: чип 0805; GOST: Резистор чип 0805-0,125 Вт-160 Ом ±1% фирма "YAGEO"
footprint R0805_H06M (Dim 2mm*1.25mm H=0.6mm)
pins: 1, 2
1 alternate drawing of the same symbol

## R_0805-180 Ом-1%-YAGEO
designator R?, comment value 180  (hidden comment: Резистор чип 0805-0,125 Вт-180 Ом ±1% фирма "YAGEO")
чип 0805-0,125 Вт-180 Ом ±1% фирма "YAGEO"; Tol: ± 1%; Manufacturer: фирма "YAGEO"; Power: 0,125 Вт; Name: Резистор; TYP: чип 0805; GOST: Резистор чип 0805-0,125 Вт-180 Ом ±1% фирма "YAGEO"
footprint R0805_H06M (Dim 2mm*1.25mm H=0.6mm)
pins: 1, 2
1 alternate drawing of the same symbol

## R_0805-191 кОм-1%-YAGEO
designator R?, comment value 191 к  (hidden comment: Резистор чип 0805-0,125 Вт-191 кОм ±1% фирма "YAGEO")
чип 0805-0,125 Вт-191 кОм ±1% фирма "YAGEO"; Tol: ± 1%; Manufacturer: фирма "YAGEO"; Power: 0,125 Вт; Name: Резистор; TYP: чип 0805; GOST: Резистор чип 0805-0,125 Вт-191 кОм ±1% фирма "YAGEO"
footprint R0805_H06M (Dim 2mm*1.25mm H=0.6mm)
pins: 1, 2
1 alternate drawing of the same symbol

## R_0805-200 кОм-1%-YAGEO
designator R?, comment value 200 к  (hidden comment: Резистор чип 0805-0,125 Вт-200 кОм ±1% фирма "YAGEO")
чип 0805-0,125 Вт-200 кОм ±1% фирма "YAGEO"; Tol: ± 1%; Manufacturer: фирма "YAGEO"; Power: 0,125 Вт; Name: Резистор; TYP: чип 0805; GOST: Резистор чип 0805-0,125 Вт-200 кОм ±1% фирма "YAGEO"
footprint R0805_H06M (Dim 2mm*1.25mm H=0.6mm)
pins: 1, 2
1 alternate drawing of the same symbol

## R_0805-200 Ом-1%-YAGEO
designator R?, comment value 200  (hidden comment: Резистор чип 0805-0,125 Вт-200 Ом ±1% фирма "YAGEO")
чип 0805-0,125 Вт-200 Ом ±1% фирма "YAGEO"; Tol: ± 1%; Manufacturer: фирма "YAGEO"; Power: 0,125 Вт; Name: Резистор; TYP: чип 0805; GOST: Резистор чип 0805-0,125 Вт-200 Ом ±1% фирма "YAGEO"
footprint R0805_H06M (Dim 2mm*1.25mm H=0.6mm)
pins: 1, 2
1 alternate drawing of the same symbol

## R_0805-220 Ом-1%-YAGEO
designator R?, comment value 220  (hidden comment: Резистор чип 0805-0,125 Вт-220 Ом ±1% фирма "YAGEO")
чип 0805-0,125 Вт-220 Ом ±1% фирма "YAGEO"; Tol: ± 1%; Manufacturer: фирма "YAGEO"; Power: 0,125 Вт; Name: Резистор; TYP: чип 0805; GOST: Резистор чип 0805-0,125 Вт-220 Ом ±1% фирма "YAGEO"
footprint R0805_H06M (Dim 2mm*1.25mm H=0.6mm)
pins: 1, 2
1 alternate drawing of the same symbol

## R_0805-240 Ом-1%-YAGEO
designator R?, comment value 240  (hidden comment: Резистор чип 0805-0,125 Вт-240 Ом ±1% фирма "YAGEO")
чип 0805-0,125 Вт-240 Ом ±1% фирма "YAGEO"; Tol: ± 1%; Manufacturer: фирма "YAGEO"; Power: 0,125 Вт; Name: Резистор; TYP: чип 0805; GOST: Резистор чип 0805-0,125 Вт-240 Ом ±1% фирма "YAGEO"
footprint R0805_H06M (Dim 2mm*1.25mm H=0.6mm)
pins: 1, 2
1 alternate drawing of the same symbol

## R_0805-270 кОм-1%-YAGEO
designator R?, comment value 270 к  (hidden comment: Резистор чип 0805-0,125 Вт-270 кОм ±1% фирма "YAGEO")
чип 0805-0,125 Вт-270 кОм ±1% фирма "YAGEO"; Tol: ± 1%; Manufacturer: фирма "YAGEO"; Power: 0,125 Вт; Name: Резистор; TYP: чип 0805; GOST: Резистор чип 0805-0,125 Вт-270 кОм ±1% фирма "YAGEO"
footprint R0805_H06M (Dim 2mm*1.25mm H=0.6mm)
pins: 1, 2
1 alternate drawing of the same symbol

## R_0805-270 Ом-1%-YAGEO
designator R?, comment value 270  (hidden comment: Резистор чип 0805-0,125 Вт-270 Ом ±1% фирма "YAGEO")
чип 0805-0,125 Вт-270 Ом ±1% фирма "YAGEO"; Tol: ± 1%; Manufacturer: фирма "YAGEO"; Power: 0,125 Вт; Name: Резистор; TYP: чип 0805; GOST: Резистор чип 0805-0,125 Вт-270 Ом ±1% фирма "YAGEO"
footprint R0805_H06M (Dim 2mm*1.25mm H=0.6mm)
pins: 1, 2
1 alternate drawing of the same symbol

## R_0805-300 кОм-1%-YAGEO
designator R?, comment value 300 к  (hidden comment: Резистор чип 0805-0,125 Вт-300 кОм ±1% фирма "YAGEO")
чип 0805-0,125 Вт-300 кОм ±1% фирма "YAGEO"; Tol: ± 1%; Manufacturer: фирма "YAGEO"; Power: 0,125 Вт; Name: Резистор; TYP: чип 0805; GOST: Резистор чип 0805-0,125 Вт-300 кОм ±1% фирма "YAGEO"
footprint R0805_H06M (Dim 2mm*1.25mm H=0.6mm)
pins: 1, 2
1 alternate drawing of the same symbol

## R_0805-300 Ом-1%-YAGEO
designator R?, comment value 300  (hidden comment: Резистор чип 0805-0,125 Вт-300 Ом ±1% фирма "YAGEO")
чип 0805-0,125 Вт-300 Ом ±1% фирма "YAGEO"; Tol: ± 1%; Manufacturer: фирма "YAGEO"; Power: 0,125 Вт; Name: Резистор; TYP: чип 0805; GOST: Резистор чип 0805-0,125 Вт-300 Ом ±1% фирма "YAGEO"
footprint R0805_H06M (Dim 2mm*1.25mm H=0.6mm)
pins: 1, 2
1 alternate drawing of the same symbol

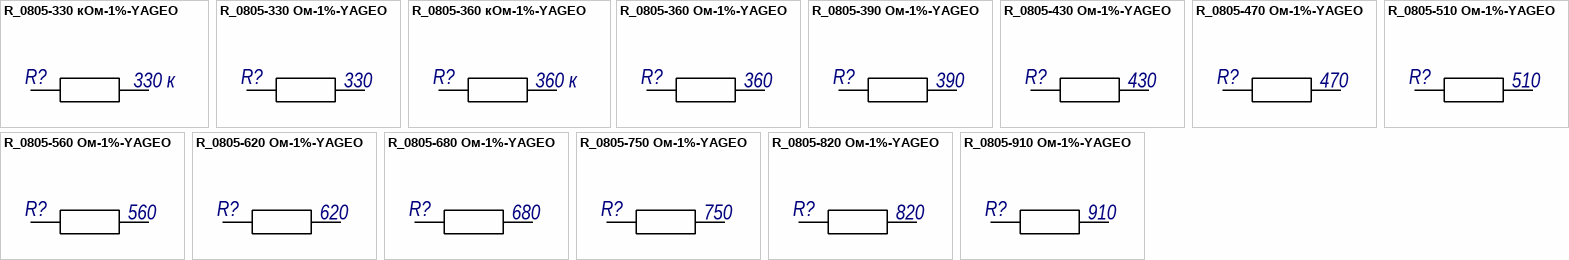
[diagram p2: symbols R_0805-330 кОм-1%-YAGEO to R_0805-910 Ом-1%-YAGEO]

## R_0805-330 кОм-1%-YAGEO
designator R?, comment value 330 к  (hidden comment: Резистор чип 0805-0,125 Вт-330 кОм ±1% фирма "YAGEO")
чип 0805-0,125 Вт-330 кОм ±1% фирма "YAGEO"; Tol: ± 1%; Manufacturer: фирма "YAGEO"; Power: 0,125 Вт; Name: Резистор; TYP: чип 0805; GOST: Резистор чип 0805-0,125 Вт-330 кОм ±1% фирма "YAGEO"
footprint R0805_H06M (Dim 2mm*1.25mm H=0.6mm)
pins: 1, 2
1 alternate drawing of the same symbol

## R_0805-330 Ом-1%-YAGEO
designator R?, comment value 330  (hidden comment: Резистор чип 0805-0,125 Вт-330 Ом ±1% фирма "YAGEO")
чип 0805-0,125 Вт-330 Ом ±1% фирма "YAGEO"; Tol: ± 1%; Manufacturer: фирма "YAGEO"; Power: 0,125 Вт; Name: Резистор; TYP: чип 0805; GOST: Резистор чип 0805-0,125 Вт-330 Ом ±1% фирма "YAGEO"
footprint R0805_H06M (Dim 2mm*1.25mm H=0.6mm)
pins: 1, 2
1 alternate drawing of the same symbol

## R_0805-360 кОм-1%-YAGEO
designator R?, comment value 360 к  (hidden comment: Резистор чип 0805-0,125 Вт-360 кОм ±1% фирма "YAGEO")
чип 0805-0,125 Вт-360 кОм ±1% фирма "YAGEO"; Tol: ± 1%; Manufacturer: фирма "YAGEO"; Power: 0,125 Вт; Name: Резистор; TYP: чип 0805; GOST: Резистор чип 0805-0,125 Вт-360 кОм ±1% фирма "YAGEO"
footprint R0805_H06M (Dim 2mm*1.25mm H=0.6mm)
pins: 1, 2
1 alternate drawing of the same symbol

## R_0805-360 Ом-1%-YAGEO
designator R?, comment value 360  (hidden comment: Резистор чип 0805-0,125 Вт-360 Ом ±1% фирма "YAGEO")
чип 0805-0,125 Вт-360 Ом ±1% фирма "YAGEO"; Tol: ± 1%; Manufacturer: фирма "YAGEO"; Power: 0,125 Вт; Name: Резистор; TYP: чип 0805; GOST: Резистор чип 0805-0,125 Вт-360 Ом ±1% фирма "YAGEO"
footprint R0805_H06M (Dim 2mm*1.25mm H=0.6mm)
pins: 1, 2
1 alternate drawing of the same symbol

## R_0805-390 Ом-1%-YAGEO
designator R?, comment value 390  (hidden comment: Резистор чип 0805-0,125 Вт-390 Ом ±1% фирма "YAGEO")
чип 0805-0,125 Вт-390 Ом ±1% фирма "YAGEO"; Tol: ± 1%; Manufacturer: фирма "YAGEO"; Power: 0,125 Вт; Name: Резистор; TYP: чип 0805; GOST: Резистор чип 0805-0,125 Вт-390 Ом ±1% фирма "YAGEO"
footprint R0805_H06M (Dim 2mm*1.25mm H=0.6mm)
pins: 1, 2
1 alternate drawing of the same symbol

## R_0805-430 Ом-1%-YAGEO
designator R?, comment value 430  (hidden comment: Резистор чип 0805-0,125 Вт-430 Ом ±1% фирма "YAGEO")
чип 0805-0,125 Вт-430 Ом ±1% фирма "YAGEO"; Tol: ± 1%; Manufacturer: фирма "YAGEO"; Power: 0,125 Вт; Name: Резистор; TYP: чип 0805; GOST: Резистор чип 0805-0,125 Вт-430 Ом ±1% фирма "YAGEO"
footprint R0805_H06M (Dim 2mm*1.25mm H=0.6mm)
pins: 1, 2
1 alternate drawing of the same symbol

## R_0805-470 Ом-1%-YAGEO
designator R?, comment value 470  (hidden comment: Резистор чип 0805-0,125 Вт-470 Ом ±1% фирма "YAGEO")
чип 0805-0,125 Вт-470 Ом ±1% фирма "YAGEO"; Tol: ± 1%; Manufacturer: фирма "YAGEO"; Power: 0,125 Вт; Name: Резистор; TYP: чип 0805; GOST: Резистор чип 0805-0,125 Вт-470 Ом ±1% фирма "YAGEO"
footprint R0805_H06M (Dim 2mm*1.25mm H=0.6mm)
pins: 1, 2
1 alternate drawing of the same symbol

## R_0805-510 Ом-1%-YAGEO
designator R?, comment value 510  (hidden comment: Резистор чип 0805-0,125 Вт-510 Ом ±1% фирма "YAGEO")
чип 0805-0,125 Вт-510 Ом ±1% фирма "YAGEO"; Tol: ± 1%; Manufacturer: фирма "YAGEO"; Power: 0,125 Вт; Name: Резистор; TYP: чип 0805; GOST: Резистор чип 0805-0,125 Вт-510 Ом ±1% фирма "YAGEO"
footprint R0805_H06M (Dim 2mm*1.25mm H=0.6mm)
pins: 1, 2
1 alternate drawing of the same symbol

## R_0805-560 Ом-1%-YAGEO
designator R?, comment value 560  (hidden comment: Резистор чип 0805-0,125 Вт-560 Ом ±1% фирма "YAGEO")
чип 0805-0,125 Вт-560 Ом ±1% фирма "YAGEO"; Tol: ± 1%; Manufacturer: фирма "YAGEO"; Power: 0,125 Вт; Name: Резистор; TYP: чип 0805; GOST: Резистор чип 0805-0,125 Вт-560 Ом ±1% фирма "YAGEO"
footprint R0805_H06M (Dim 2mm*1.25mm H=0.6mm)
pins: 1, 2
1 alternate drawing of the same symbol

## R_0805-620 Ом-1%-YAGEO
designator R?, comment value 620  (hidden comment: Резистор чип 0805-0,125 Вт-620 Ом ±1% фирма "YAGEO")
чип 0805-0,125 Вт-620 Ом ±1% фирма "YAGEO"; Tol: ± 1%; Manufacturer: фирма "YAGEO"; Power: 0,125 Вт; Name: Резистор; TYP: чип 0805; GOST: Резистор чип 0805-0,125 Вт-620 Ом ±1% фирма "YAGEO"
footprint R0805_H06M (Dim 2mm*1.25mm H=0.6mm)
pins: 1, 2
1 alternate drawing of the same symbol

## R_0805-680 Ом-1%-YAGEO
designator R?, comment value 680  (hidden comment: Резистор чип 0805-0,125 Вт-680 Ом ±1% фирма "YAGEO")
чип 0805-0,125 Вт-620 Ом ±1% фирма "YAGEO"; Tol: ± 1%; Manufacturer: фирма "YAGEO"; Power: 0,125 Вт; Name: Резистор; TYP: чип 0805; GOST: Резистор чип 0805-0,125 Вт-680 Ом ±1% фирма "YAGEO"
footprint R0805_H06M (Dim 2mm*1.25mm H=0.6mm)
pins: 1, 2
1 alternate drawing of the same symbol

## R_0805-750 Ом-1%-YAGEO
designator R?, comment value 750  (hidden comment: Резистор чип 0805-0,125 Вт-750 Ом ±1% фирма "YAGEO")
чип 0805-0,125 Вт-750 Ом ±1% фирма "YAGEO"; Tol: ± 1%; Manufacturer: фирма "YAGEO"; Power: 0,125 Вт; Name: Резистор; TYP: чип 0805; GOST: Резистор чип 0805-0,125 Вт-750 Ом ±1% фирма "YAGEO"
footprint R0805_H06M (Dim 2mm*1.25mm H=0.6mm)
pins: 1, 2
1 alternate drawing of the same symbol

## R_0805-820 Ом-1%-YAGEO
designator R?, comment value 820  (hidden comment: Резистор чип 0805-0,125 Вт-820 Ом ±1% фирма "YAGEO")
чип 0805-0,125 Вт-820 Ом ±1% фирма "YAGEO"; Tol: ± 1%; Manufacturer: фирма "YAGEO"; Power: 0,125 Вт; Name: Резистор; TYP: чип 0805; GOST: Резистор чип 0805-0,125 Вт-820 Ом ±1% фирма "YAGEO"
footprint R0805_H06M (Dim 2mm*1.25mm H=0.6mm)
pins: 1, 2
1 alternate drawing of the same symbol

## R_0805-910 Ом-1%-YAGEO
designator R?, comment value 910  (hidden comment: Резистор чип 0805-0,125 Вт-910 Ом ±1% фирма "YAGEO")
чип 0805-0,125 Вт-820 Ом ±1% фирма "YAGEO"; Tol: ± 1%; Manufacturer: фирма "YAGEO"; Power: 0,125 Вт; Name: Резистор; TYP: чип 0805; GOST: Резистор чип 0805-0,125 Вт-910 Ом ±1% фирма "YAGEO"
footprint R0805_H06M (Dim 2mm*1.25mm H=0.6mm)
pins: 1, 2
1 alternate drawing of the same symbol